# EAGLE library part TLC5947 (library TLC5947)
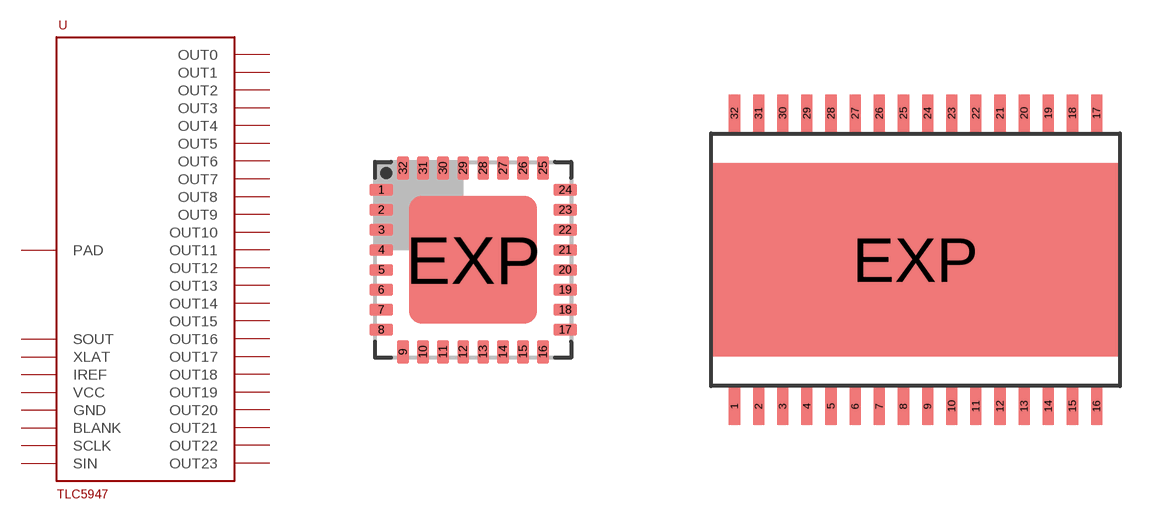
[diagram p0: symbol with the pads of QFN32; footprints QFN32, HTSSOP32DAP]

Designator prefix -

## TLC5947RHBT  [QFN32]
1  OUT0
2  OUT1
3  OUT2
4  OUT3
5  OUT4
6  OUT5
7  OUT6
8  OUT7
9  OUT8
10  OUT9
11  OUT10
12  OUT11
13  OUT12
14  OUT13
15  OUT14
16  OUT15
17  OUT16
18  OUT17
19  OUT18
20  OUT19
21  OUT20
22  OUT21
23  OUT22
24  OUT23
25  SOUT
26  XLAT
27  IREF
28  VCC
29  GND
30  BLANK
31  SCLK
32  SIN
EXP  PAD

## TLC5947DAP  [HTSSOP32DAP]
1  GND
2  BLANK
3  SCLK
4  SIN
5  OUT0
6  OUT1
7  OUT2
8  OUT3
9  OUT4
10  OUT5
11  OUT6
12  OUT7
13  OUT8
14  OUT9
15  OUT10
16  OUT11
17  OUT12
18  OUT13
19  OUT14
20  OUT15
21  OUT16
22  OUT17
23  OUT18
24  OUT19
25  OUT20
26  OUT21
27  OUT22
28  OUT23
29  SOUT
30  XLAT
31  IREF
32  VCC
EXP  PAD

## Footprint QFN32 (pad centres in mm)
QFN 32 5 x 5 mm Source: http://datasheets.maxim-ic.com/en/ds/MAX7042.pdf
smd 0.6 x 0.3: 1 -2.3,1.75; 2 -2.3,1.25; 3 -2.3,0.75; 4 -2.3,0.25; 5 -2.3,-0.25; 6 -2.3,-0.75; 7 -2.3,-1.25; 8 -2.3,-1.75; 17 2.3,-1.75; 18 2.3,-1.25; 19 2.3,-0.75; 20 2.3,-0.25; 21 2.3,0.25; 22 2.3,0.75; 23 2.3,1.25; 24 2.3,1.75
smd 0.3 x 0.6: 9 -1.75,-2.3; 10 -1.25,-2.3; 11 -0.75,-2.3; 12 -0.25,-2.3; 13 0.25,-2.3; 14 0.75,-2.3; 15 1.25,-2.3; 16 1.75,-2.3; 25 1.75,2.3; 26 1.25,2.3; 27 0.75,2.3; 28 0.25,2.3; 29 -0.25,2.3; 30 -0.75,2.3; 31 -1.25,2.3; 32 -1.75,2.3
smd 3.2 x 3.2: EXP 0,0

## Footprint HTSSOP32DAP (pad centres in mm)
PowerPAD(TM) PLASTIC SMALL-OUTLINE PACKAGE DAP (R-PDSO-G**) Source: http://focus.ti.com/lit/ml/mpds029b/mpds029b.pdf / slma002.pdf
smd 0.3 x 1: 1 -4.875,-3.95; 2 -4.225,-3.95; 3 -3.575,-3.95; 4 -2.925,-3.95; 5 -2.275,-3.95; 6 -1.625,-3.95; 7 -0.975,-3.95; 8 -0.325,-3.95; 9 0.325,-3.95; 10 0.975,-3.95; 11 1.625,-3.95; 12 2.275,-3.95; 13 2.925,-3.95; 14 3.575,-3.95; 15 4.225,-3.95; 16 4.875,-3.95; 17 4.875,3.95; 18 4.225,3.95; 19 3.575,3.95; 20 2.925,3.95; 21 2.275,3.95; 22 1.625,3.95; 23 0.975,3.95; 24 0.325,3.95; 25 -0.325,3.95; 26 -0.975,3.95; 27 -1.625,3.95; 28 -2.275,3.95; 29 -2.925,3.95; 30 -3.575,3.95; 31 -4.225,3.95; 32 -4.875,3.95
smd 11 x 5.2: EXP 0,0